# Altium schematic symbol library Miscellaneous.SchLib: 65 symbols
Pins are listed as number, name and electrical type; pins without a type are passive.

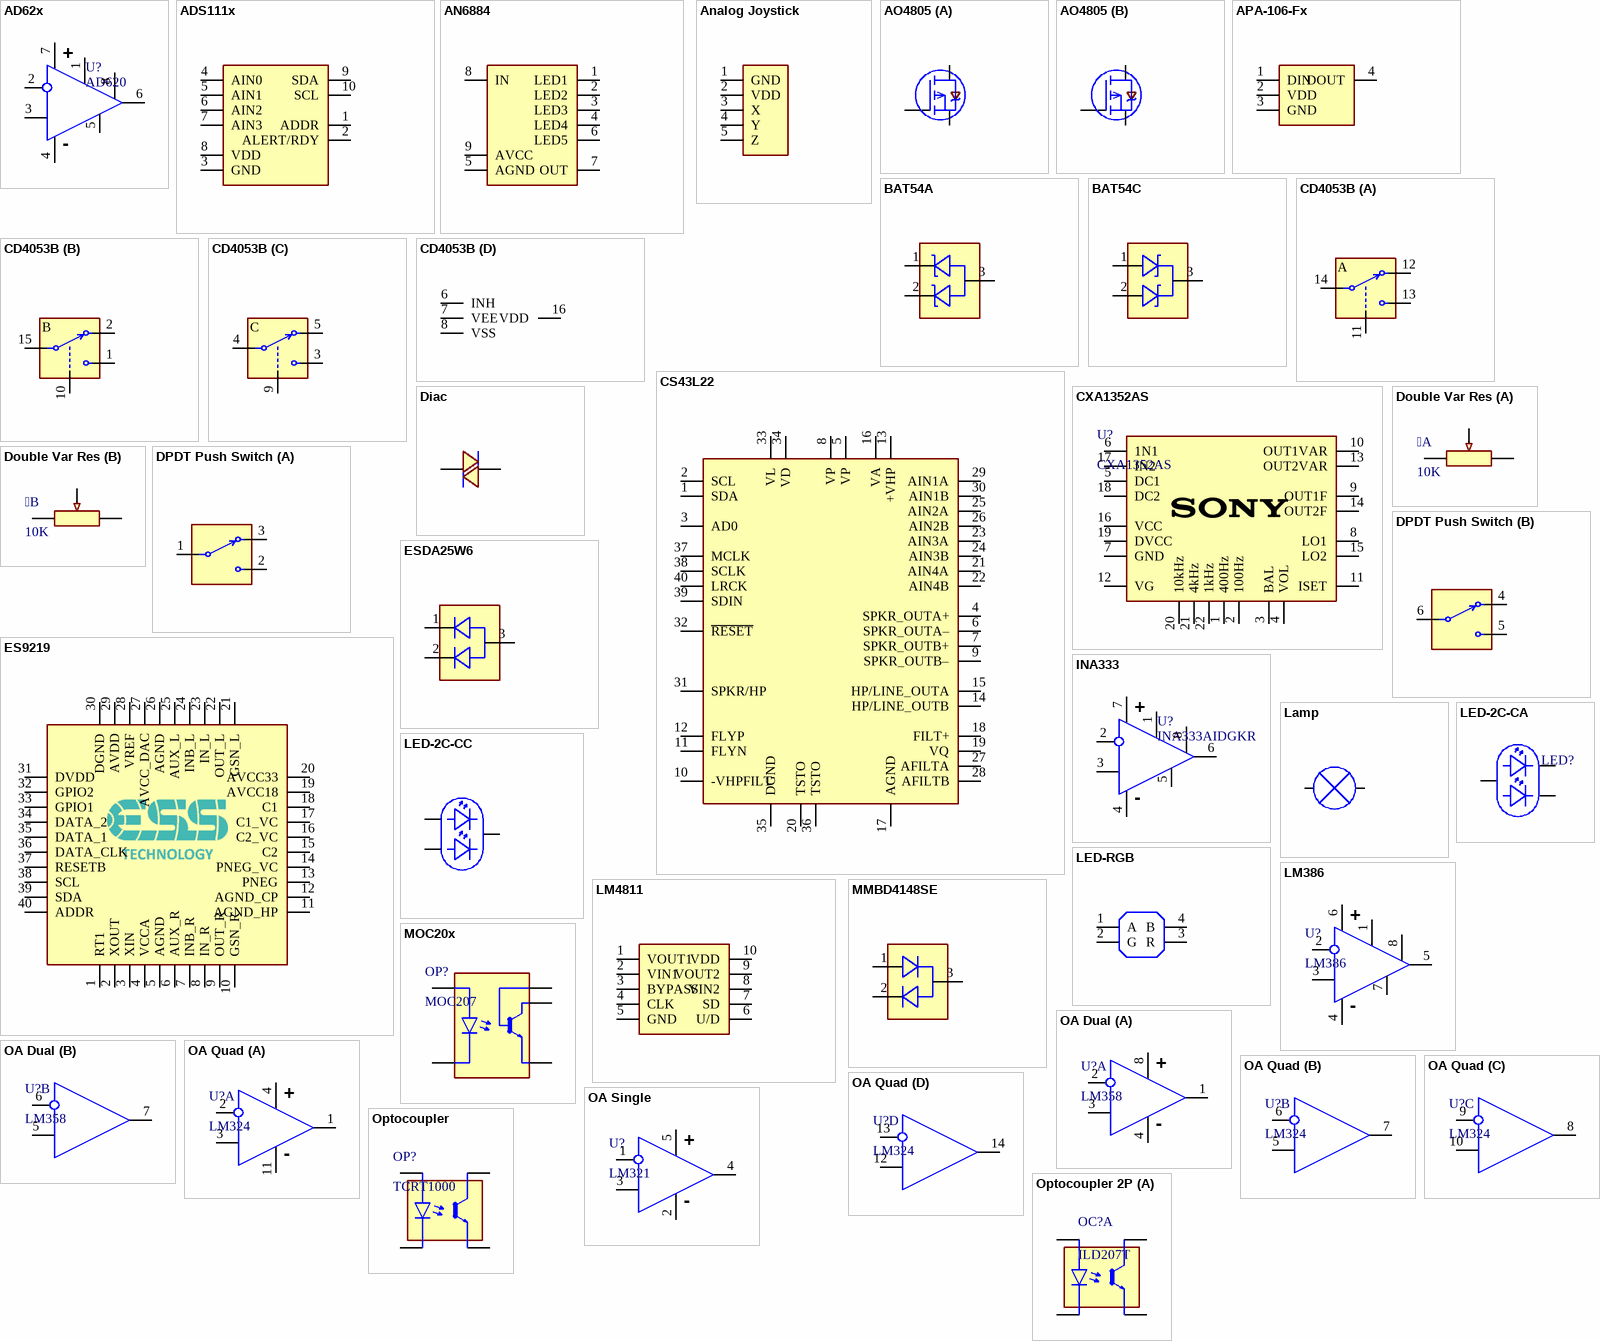
[diagram p0: symbols AD62x to Optocoupler 2P]

## AD62x
designator U?, comment AD620
Low Cost Low Power Instrumentation Amplifier; Part Number: AD620
footprint DIP8
footprint SOIC8 (Small Outline Integrated Circuit)
pins: 1, 2, 3, 4, 5, 6, 7, 8
text: +; -

## ADS111x
designator U?, comment ADS1115IDGSR
Ultra-Small, Low-Power, I / 2C-Compatible, 860-SPS, 16-Bit ADCs / With Internal Reference, Oscillator, and Programmable Comparator; Part Number: ADS1115IDGSR
footprint VSSOP10
pins: 1 ADDR, 2 ALERT/RDY, 3 GND, 4 AIN0, 5 AIN1, 6 AIN2, 7 AIN3, 8 VDD, 9 SDA, 10 SCL

## AN6884
designator U?
Driving 5-LED and is capable of logarithmic (dB) bar graph display for input signal; Part Number: AN6884
pins: 1 LED1, 2 LED2, 3 LED3, 4 LED4, 5 AGND, 6 LED5, 7 OUT, 8 IN, 9 AVCC

## Analog Joystick
designator U?, comment RKJXV1224005
PS5 Analog Joystick; Part Number: RKJXV1224005
footprint RKJXV1224005 (PS5 Analog Joystick)
footprint COM-09032 (PS3/PS4 Analog Joystick)
pins: 1 GND, 2 VDD, 3 X, 4 Y, 5 Z

## AO4805
designator Q?
Dual P-Channel MOSFET; Part Number: AO4805
footprint SOIC8 (Small Outline Integrated Circuit); pin to pad 5>5+6 7>7+8
part A pins: 3 S1, 4 G1, 5 D1
part B pins: 1 S2, 2 G2, 7 D2

## APA-106-Fx
designator LED?, comment APA-106-F5
RGB Address LED; Part Number: APA-106-F5
footprint _4-PAD-SM
footprint _4-PAD-TH
pins: 1 DIN, 2 VDD, 3 GND, 4 DOUT

## BAT54A
designator D?, comment MMBD4148SE
SCHOTTKY BARRIER DIODE CA; Part Number: MMBD4148SE
footprint SOT-23-3-312
pins: 1, 2, 3

## BAT54C
designator D?, comment MMBD4148SE
SCHOTTKY BARRIER DIODE CC; Part Number: MMBD4148SE
footprint SOT-23-3-312
pins: 1, 2, 3

## CD4053B
designator U?
CMOS Single 8-Channel Analog Multiplexer or Demultiplexer; Part Number: CD4053B
footprint SOIC16
footprint DIP16
footprint TSSOP16
part A pins: 11, 12, 13, 14
part B pins: 1, 2, 10, 15
part C pins: 3, 4, 5, 9
part D pins: 6 INH, 7 VEE, 8 VSS, 16 VDD
part A text: A
part B text: B
part C text: C

## CS43L22
designator U?
Low Power, Stereo DAC w/Headphone & Speaker Amps; Part Number: CS43L22
footprint QFN40
pins: 1 SDA, 2 SCL, 3 AD0, 4 SPKR_OUTA+, 5 VP, 6 SPKR_OUTA–, 7 SPKR_OUTB+, 8 VP, 9 SPKR_OUTB–, 10 -VHPFILT, 11 FLYN, 12 FLYP, 13 +VHP, 14 HP/LINE_OUTB, 15 HP/LINE_OUTA, 16 VA, 17 AGND, 18 FILT+, 19 VQ, 20 TSTO, 21 AIN4A, 22 AIN4B, 23 AIN3A, 24 AIN3B, 25 AIN2A, 26 AIN2B, 27 AFILTA, 28 AFILTB, 29 AIN1A, 30 AIN1B, 31 SPKR/HP, 32 ~{RESET}, 33 VL, 34 VD, 35 DGND, 36 TSTO, 37 MCLK, 38 SCLK, 39 SDIN, 40 LRCK

## CXA1352AS
designator U?
2-channel 5 Elements Graphic Equalizer IC; Part Number: CXA1352AS
footprint SDIP22
pins: 1 400Hz, 2 100Hz, 3 BAL, 4 VOL, 5 DC1, 6 1N1, 7 GND, 8 LO1, 9 OUT1F, 10 OUT1VAR, 11 ISET, 12 VG, 13 OUT2VAR, 14 OUT2F, 15 LO2, 16 VCC, 17 IN2, 18 DC2, 19 DVCC, 20 10kHz, 21 4kHz, 22 1kHz

## Diac
designator D?, comment DB-3
Part Number: DB-3
footprint _2-PAD-SM
footprint _2-PAD-TH
footprint AXIAL10D-BL
footprint AXIAL10D-TR
footprint AXIAL12D-BL
footprint MELF-LL34
footprint SOD-123FL
footprint SOD-128
footprint SOD-323
footprint SOD-523 (SSMini2, SC-79)
pins: 1, 2

## Double Var Res
designator , comment 10K
Part Number: RK1411G; Value: 10K
footprint RK1411G
part A pins: 1, 2, 6
part B pins: 3, 4, 5

## DPDT Push Switch
designator SW?, comment MHPS2273  (value not drawn)
Part Number: MHPS2273
footprint MHPS2273 (MHPS Series Key Switches)
part A pins: 1, 2, 3
part B pins: 4, 5, 6

## ES9219
designator U?, comment ES9219Q
32-bit Stereo Low Power DAC with Headphone Amplifier, Analog Volume Control and Output Switch; Part Number: ES9219Q
footprint QFN40-5X5MM-P0.4MM
pins: 1 RT1, 2 XOUT, 3 XIN, 4 VCCA, 5 AGND, 6 AUX_R, 7 INB_R, 8 IN_R, 9 OUT_R, 10 GSN_R, 11 AGND_HP, 12 AGND_CP, 13 PNEG, 14 PNEG_VC, 15 C2, 16 C2_VC, 17 C1_VC, 18 C1, 19 AVCC18, 20 AVCC33, 21 GSN_L, 22 OUT_L, 23 IN_L, 24 INB_L, 25 AUX_L, 26 AGND, 27 AVCC_DAC, 28 VREF, 29 AVDD, 30 DGND, 31 DVDD, 32 GPIO2, 33 GPIO1, 34 DATA_2, 35 DATA_1, 36 DATA_CLK, 37 RESETB, 38 SCL, 39 SDA, 40 ADDR

## ESDA25W6
designator D?
TRANSIL™ array for data protection; Part Number: ESDA25W6
footprint SOT-323 (SC-70)
pins: 1, 2, 3

## INA333
designator U?, comment INA333AIDGKR
Micro-Power (50μA), Zerø-Drift, Rail-to-Rail Out Instrumentation Amplifier; Part Number: INA333AIDGKR
footprint VSSOP8
pins: 1, 2, 3, 4, 5, 6, 7, 8
text: +; -

## Lamp
designator DS?
footprint _2-PAD-SM
footprint _2-PAD-TH
pins: 1, 2

## LED-2C-CA
designator LED?
footprint LED-3010
pins: 1, 2, 3

## LED-2C-CC
designator LED?
footprint LED-3010
pins: 1, 2, 3

## LED-RGB
designator LED?, comment 3528
Part Number: 3528
footprint _4-PAD-SM
footprint _4-PAD-TH
footprint LED-1010
footprint LED-3528
pins: 1 A, 2 G, 3 R, 4 B

## LM386
designator U?
LM386 Low Voltage Audio Power Amplifier; Part Number: LM386
footprint SOIC8 (Small Outline Integrated Circuit)
footprint DIP8
pins: 1, 2, 3, 4, 5, 6, 7, 8
text: +; -

## LM4811
designator U?
Dual 105mW Headphone Amplifier with Digital Volume Control and Shutdown mode; Part Number: LM4811
footprint HVSSOP10
pins: 1 VOUT1, 2 VIN1, 3 BYPASS, 4 CLK, 5 GND, 6 U/D, 7 SD, 8 VIN2, 9 VOUT2, 10 VDD

## MMBD4148SE
designator D?
Part Number: MMBD4148SE
footprint SOT-23-312
pins: 1, 2, 3

## MOC20x
designator OP?, comment MOC207
SMALL OUTLINE OPTOISOLATORS TRANSISTOR OUTPUT; Part Number: MOC207
footprint SOIC8-H3.6MM
pins: 1 Anode, 2 Cathode, 5 Emitter, 6 Collector, 7 Base

## OA Dual
designator U?, comment LM358
Part Number: LM358
footprint SOIC8
footprint DIP8
footprint VSSOP8
footprint TSOT-23-8
part A pins: 1 OUT, 2 −, 3 +, 4 Vs-, 8 Vs+
part B pins: 5 +, 6 −, 7 OUT
part A text: -

## OA Quad
designator U?, comment LM324
Part Number: LM324
footprint SOIC14
footprint DIP14
footprint TSSOP14
part A pins: 1 OUT, 2 −, 3 +, 4 Vs+, 11 Vs-
part B pins: 5 +, 6 −, 7 OUT
part C pins: 8 OUT, 9 −, 10 +
part D pins: 12 +, 13 −, 14 OUT
part A text: -

## OA Single
designator U?, comment LM321
Part Number: LM321
footprint SOT-23-5
pins: 1 −, 2 Vs-, 3 +, 4 OUT, 5 Vs+
text: -

## Optocoupler
designator OP?, comment TCRT1000
Part Number: TCRT1000
footprint _4-PAD-SM
footprint _4-PAD-TH
footprint DIP4
footprint DIP4-WHITE
pins: 1 Anode, 2 Cathode, 3 Emitter, 4 Collector

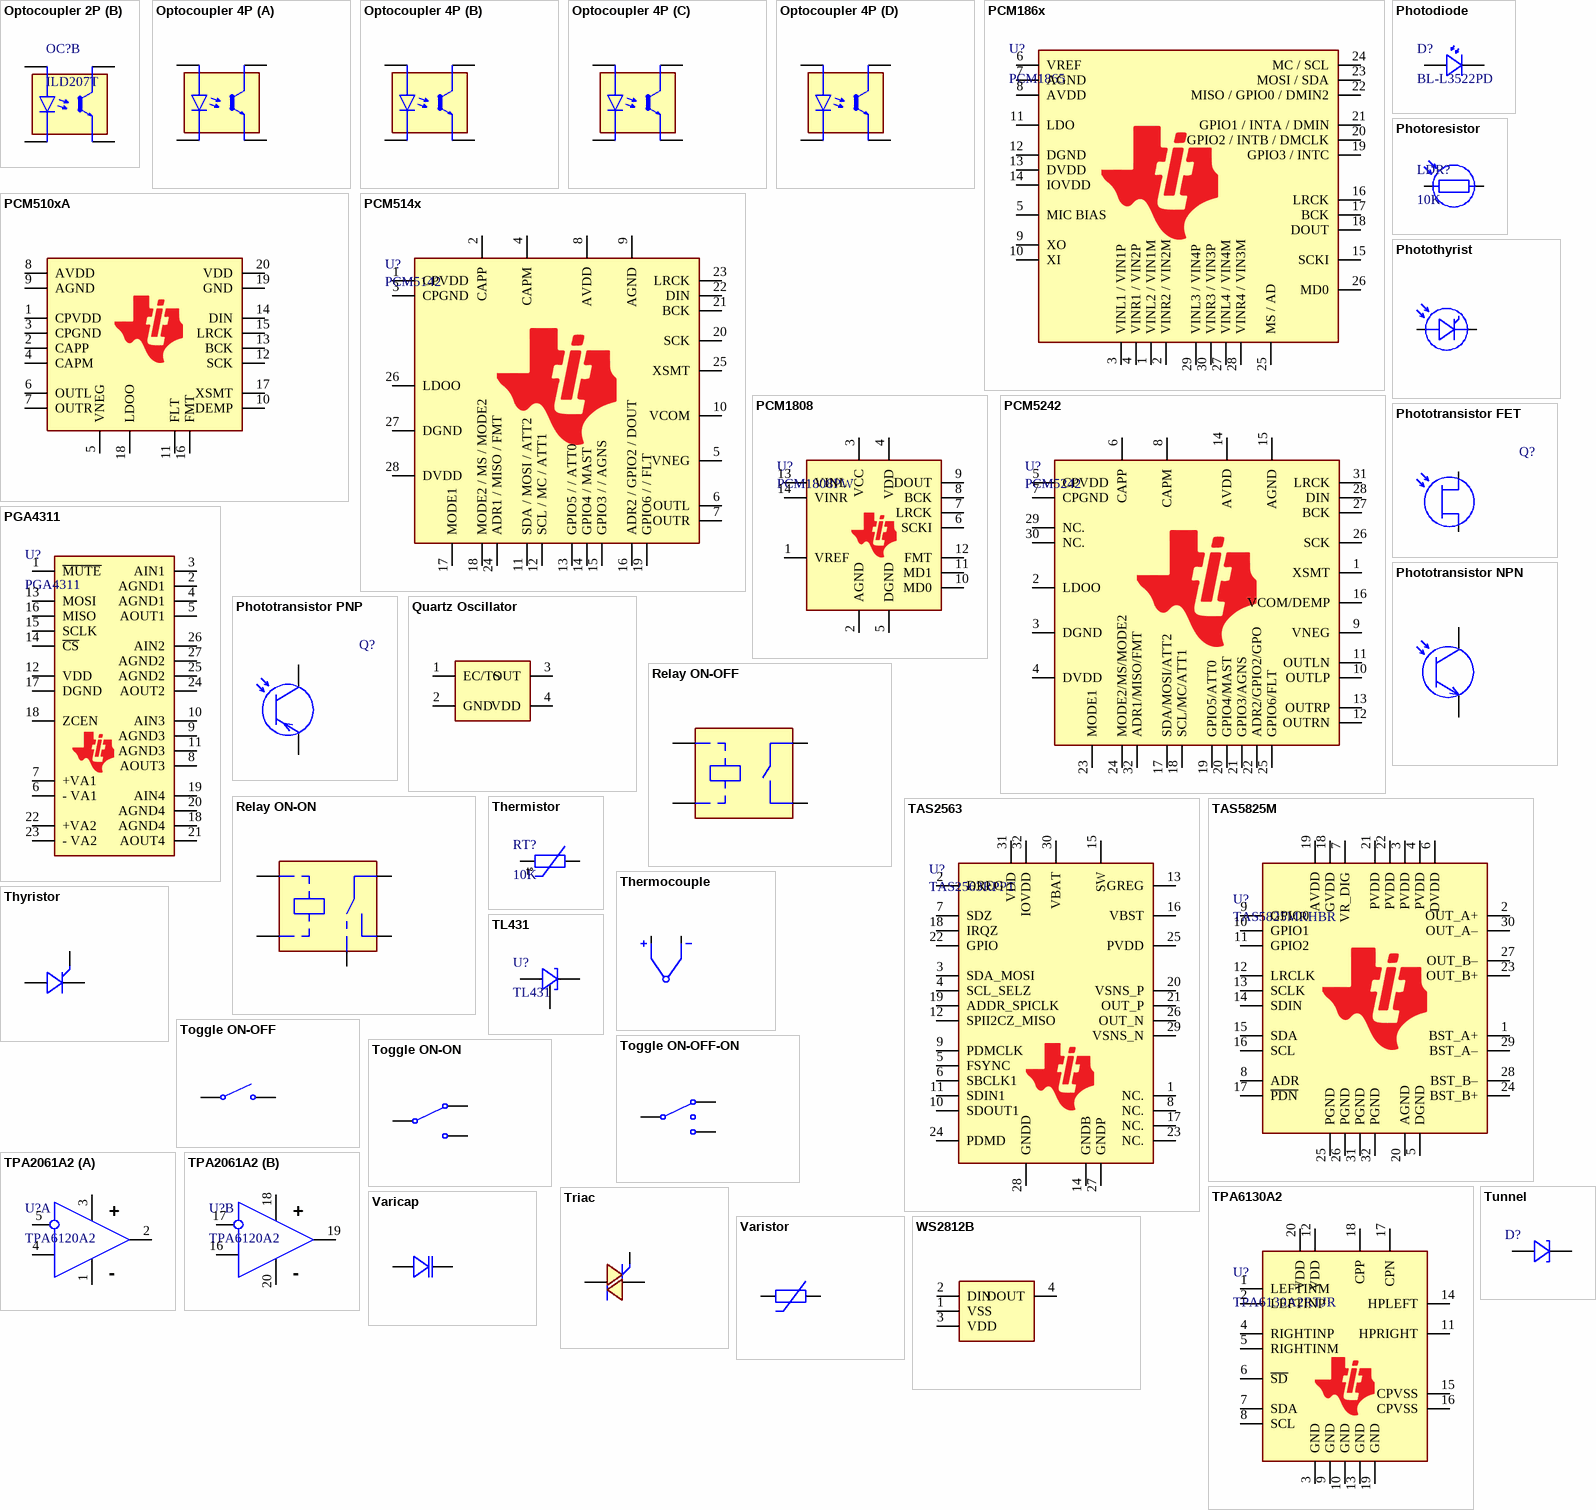
[diagram p1: symbols Optocoupler 2P to WS2812B]

## Optocoupler 2P
designator OC?, comment ILD207T
Part Number: ILD207T
footprint SOIC8
footprint DIP8
footprint DIP8-WHITE
part A pins: 1, 2, 7, 8
part B pins: 3, 4, 5, 6

## Optocoupler 4P
designator OC?, comment PS2801-4
Part Number: PS2801-4
footprint SSOP16
footprint SOP16
footprint DIP16
footprint DIP16-WHITE
footprint SOIC16
part A pins: 1, 2, 15, 16
part B pins: 3, 4, 13, 14
part C pins: 5, 6, 11, 12
part D pins: 7, 8, 9, 10

## PCM186x
designator U?, comment PCM1865
4-Channel or 2-Channel, 192-kHz, Audio ADCs (PCM1862 - PCM1865); Part Number: PCM1865
pins: 1 VINL2 / VIN1M, 2 VINR2 / VIN2M, 3 VINL1 / VIN1P, 4 VINR1 / VIN2P, 5 MIC BIAS, 6 VREF, 7 AGND, 8 AVDD, 9 XO, 10 XI, 11 LDO, 12 DGND, 13 DVDD, 14 IOVDD, 15 SCKI, 16 LRCK, 17 BCK, 18 DOUT, 19 GPIO3 / INTC, 20 GPIO2 / INTB / DMCLK, 21 GPIO1 / INTA / DMIN, 22 MISO / GPIO0 / DMIN2, 23 MOSI / SDA, 24 MC / SCL, 25 MS / AD, 26 MD0, 27 VINL4 / VIN4M, 28 VINR4 / VIN3M, 29 VINL3 / VIN4P, 30 VINR3 / VIN3P

## PCM510xA
designator U?, comment PCM5102A
2.1 VRMS, 112/106/100 dB Audio Stereo DAC with PLL and 32-bit, 384 kHz PCM Interface; Part Number: PCM5102A
footprint TSSOP20
pins: 1 CPVDD, 2 CAPP, 3 CPGND, 4 CAPM, 5 VNEG, 6 OUTL, 7 OUTR, 8 AVDD, 9 AGND, 10 DEMP, 11 FLT, 12 SCK, 13 BCK, 14 DIN, 15 LRCK, 16 FMT, 17 XSMT, 18 LDOO, 19 GND, 20 VDD

## PCM514x
designator U?, comment PCM5142
2-VRMS DirectPath™, 112/106-dB Audio Stereo DAC With 32-bit, 384-kHz PCM Interface; Part Number: PCM5142
footprint TSSOP28 (TSOP, 28-Leads, Body 9,70x4,40mm, Pitch 0,65mm, IPC Medium Density)
pins: 1 CPVDD, 2 CAPP, 3 CPGND, 4 CAPM, 5 VNEG, 6 OUTL, 7 OUTR, 8 AVDD, 9 AGND, 10 VCOM, 11 SDA / MOSI / ATT2, 12 SCL / MC / ATT1, 13 GPIO5 / / ATT0, 14 GPIO4 / MAST, 15 GPIO3 / / AGNS, 16 ADR2 / GPIO2 / DOUT, 17 MODE1, 18 MODE2 / MS / MODE2, 19 GPIO6 / / FLT, 20 SCK, 21 BCK, 22 DIN, 23 LRCK, 24 ADR1 / MISO / FMT, 25 XSMT, 26 LDOO, 27 DGND, 28 DVDD

## PCM1808
designator U?, comment PCM1808PW
SINGLE-ENDED, ANALOG-INPUT 24-BIT, 96-kHz STEREO A/D CONVERTER; Part Number: PCM1808PW
footprint TSSOP14
pins: 1 VREF, 2 AGND, 3 VCC, 4 VDD, 5 DGND, 6 SCKI, 7 LRCK, 8 BCK, 9 DOUT, 10 MD0, 11 MD1, 12 FMT, 13 VINL, 14 VINR

## PCM5242
designator U?
4.2-VRMS DirectPath™, 114-dB Audio Stereo Differential-Output DAC with 32-bit, 384-kHz PCM Interface; Part Number: PCM5242
footprint UFQFPN32
pins: 1 XSMT, 2 LDOO, 3 DGND, 4 DVDD, 5 CPVDD, 6 CAPP, 7 CPGND, 8 CAPM, 9 VNEG, 10 OUTLP, 11 OUTLN, 12 OUTRN, 13 OUTRP, 14 AVDD, 15 AGND, 16 VCOM/DEMP, 17 SDA/MOSI/ATT2, 18 SCL/MC/ATT1, 19 GPIO5/ATT0, 20 GPIO4/MAST, 21 GPIO3/AGNS, 22 ADR2/GPIO2/GPO, 23 MODE1, 24 MODE2/MS/MODE2, 25 GPIO6/FLT, 26 SCK, 27 BCK, 28 DIN, 29 NC., 30 NC., 31 LRCK, 32 ADR1/MISO/FMT

## PGA4311
designator U?
4-Channel Audio Volume Control; Part Number: PGA4311
footprint SOIC28
pins: 1 ~{MUTE}, 2 AGND1, 3 AIN1, 4 AGND1, 5 AOUT1, 6 - VA1, 7 +VA1, 8 AOUT3, 9 AGND3, 10 AIN3, 11 AGND3, 12 VDD, 13 MOSI, 14 ~{CS}, 15 SCLK, 16 MISO, 17 DGND, 18 ZCEN, 18 AGND4, 19 AIN4, 20 AGND4, 21 AOUT4, 22 +VA2, 23 - VA2, 24 AOUT2, 25 AGND2, 26 AIN2, 27 AGND2

## Photodiode
designator D?, comment BL-L3522PD
Part Number: BL-L3522PD
footprint _2-PAD-SM
footprint _2-PAD-TH
footprint AXIAL10D-BL
footprint AXIAL10D-TR
footprint AXIAL12D-BL
footprint SMA (DO-214AC)
footprint SMB (DO-214AA)
footprint SMC (DO-214AB)
footprint SOD-123FL
footprint SOD-128
footprint SOD-323
footprint SOD-523 (SSMini2, SC-79)
pins: 1, 2

## Photoresistor
designator LDR?, comment 10K
Part Number: PGM5506; Value: 10K
footprint _2-PAD-TH
footprint _2-PAD-SM
pins: 1, 2

## Photothyrist
designator D?
footprint _2-PAD-SM
footprint _2-PAD-TH
pins: 1 A, 2 K

## Phototransistor FET
designator Q?
footprint _2-PAD-SM
footprint _2-PAD-TH
pins: 1 D, 2 S

## Phototransistor NPN
designator Q?
footprint _2-PAD-SM
footprint _2-PAD-TH
pins: 1 C, 2 E

## Phototransistor PNP
designator Q?
footprint _2-PAD-SM
footprint _2-PAD-TH
pins: 1 C, 2 E

## Quartz Oscillator
designator Y?, comment MCSJK-6NC2
Value: 48 MHz; Part Number: MCSJK-6NC2
footprint _4-PAD-SM
footprint _4-PAD-TH
footprint QUARTZ-7X5MM
footprint SMD3225
pins: 1 EC/TS, 2 GND, 3 OUT, 4 VDD

## Relay ON-OFF
designator K?, comment SRD-12VDC-SLA
Part Number: SRD-12VDC-SLA
footprint _4-PAD-SM
footprint _4-PAD-TH
footprint SRD-XXVDC-SLA
footprint SRD-XXVDC-SLB
pins: 1, 2, 3, 4

## Relay ON-ON
designator K?, comment NRP05-A-12D
Part Number: NRP05-A-12D
footprint _5-PAD-SM
footprint _5-PAD-TH
footprint NRP05-C
footprint SRD-XXVDC-SLC
pins: 1, 2, 3, 4, 5

## TAS2563
designator U?, comment TAS2563RPPT
6.1W Boosted Class-D Audio Amplifier With Integrated DSP and IV Sense; Part Number: TAS2563RPPT
footprint RPP0032B
pins: 1 NC., 2 DREG, 3 SDA_MOSI, 4 SCL_SELZ, 5 FSYNC, 6 SBCLK1, 7 SDZ, 8 NC., 9 PDMCLK, 10 SDOUT1, 11 SDIN1, 12 SPII2CZ_MISO, 13 GREG, 14 GNDB, 15 SW, 16 VBST, 17 NC., 18 IRQZ, 19 ADDR_SPICLK, 20 VSNS_P, 21 OUT_P, 22 GPIO, 23 NC., 24 PDMD, 25 PVDD, 26 OUT_N, 27 GNDP, 28 GNDD, 29 VSNS_N, 30 VBAT, 31 VDD, 32 IOVDD

## TAS5825M
designator U?, comment TAS5825MRHBR
4.5 V to 26.4 V, 38-W Stereo, Inductor-Less, Digital Input, Closed-Loop / Class-D Audio Amplifier with 192-kHz Extended Audio Processing; Part Number: TAS5825MRHBR
footprint UFQFPN32
pins: 1 BST_A+, 2 OUT_A+, 3 PVDD, 4 PVDD, 5 DGND, 6 DVDD, 7 VR_DIG, 8 ADR, 9 GPIO0, 10 GPIO1, 11 GPIO2, 12 LRCLK, 13 SCLK, 14 SDIN, 15 SDA, 16 SCL, 17 ~{PDN}, 18 GVDD, 19 AVDD, 20 AGND, 21 PVDD, 22 PVDD, 23 OUT_B+, 24 BST_B+, 25 PGND, 26 PGND, 27 OUT_B–, 28 BST_B–, 29 BST_A–, 30 OUT_A–, 31 PGND, 32 PGND

## Thermistor
designator RT?, comment 10K
Part Number: NCP18XH103F03RB; Value: 10K
footprint _2-PAD-SM
footprint _2-PAD-TH
footprint R0201
footprint R0402
footprint R0603
footprint R0805
footprint R1206
pins: 1, 2
text: t°

## Thermocouple
designator TC?
footprint _2-PAD-SM
footprint _2-PAD-TH
pins: 1, 2

## Thyristor
designator D?, comment BT151
Part Number: BT151
footprint D2PAK-123
footprint D2PAK-132
footprint DPAK-123 (TO-252)
footprint DPAK-132 (TO-252)
footprint SOT-223
footprint SOT-23-3-123
footprint SOT-23-3-312
footprint SOT-323 (SC-70)
footprint SOT-416FL (SC-89 (EMT3))
footprint TO-220-H
footprint TO-220-V
footprint TO-92-123-L
footprint TO-92-123-T
footprint TO-92-132-L
footprint TO-92-132-T
footprint TO-92-321-L
footprint TO-92-321-T
pins: 1 A, 2 K, 3 Gate

## TL431
designator U?
Adjustable precision shunt regulator; Part Number: TL431
footprint TO-92-123-L
footprint SOT-23-312
pins: 1 REF, 1, 3

## Toggle ON-OFF
designator SW?, comment KN3(C)-101P
Part Number: KN3(C)-101P
footprint DIP_SW1
footprint MTS-1XX-A2 (Miniature Toggle Switch)
pins: 1, 3

## Toggle ON-OFF-ON
designator SW?, comment T8014-U2
Part Number: T8014-U2
footprint MTS-1XX-A2 (Miniature Toggle Switch)
footprint A1XAP (NKK Switches A-Series Toggle Switch)
footprint B1XAP (NKK Switches B-Series Toggle Switch)
footprint T801X (Toggle Switch)
pins: 1, 2, 3

## Toggle ON-ON
designator SW?, comment T8013-U2
Part Number: T8013-U2
footprint MTS-1XX-A2 (Miniature Toggle Switch)
footprint A1XAP (NKK Switches A-Series Toggle Switch)
footprint B1XAP (NKK Switches B-Series Toggle Switch)
footprint T801X (Toggle Switch)
footprint SS12F21G
pins: 1, 2, 3

## TPA2061A2
designator U?, comment TPA6120A2
2-Channel Audio Volume Control; Part Number: TPA6120A2
footprint HSOP20
part A pins: 1 -, 2, 3 +, 4 +, 5 -
part B pins: 16 +, 17 -, 18 RVCC+, 19 ROUT, 20 RVCC-

## TPA6130A2
designator U?, comment TPA6130A2RTJR
138-mW DIRECTPATH™ Stereo Headphone Amplifier with I2C Volume Control; Part Number: TPA6130A2RTJR
footprint QFN20 (QFN, 20-Leads, Body 4,00x4,00mm, Pitch 0,50mm, Thermal Pad 2,70x2,70mm, IPC Medium Density)
pins: 1 LEFTINM, 2 LEFTINP, 3 GND, 4 RIGHTINP, 5 RIGHTINM, 6 ~{SD}, 7 SDA, 8 SCL, 9 GND, 10 GND, 11 HPRIGHT, 12 VDD, 13 GND, 14 HPLEFT, 15 CPVSS, 16 CPVSS, 17 CPN, 18 CPP, 19 GND, 20 VDD

## Triac
designator D?, comment BT136
Part Number: BT136
footprint _3-PAD-SM
footprint _3-PAD-TH
footprint D2PAK-123
footprint D2PAK-132
footprint DPAK-123 (TO-252)
footprint DPAK-132 (TO-252)
footprint SOT-223
footprint SOT-23-3-123
footprint SOT-23-3-312
footprint SOT-323 (SC-70)
footprint SOT-416FL (SC-89 (EMT3))
footprint TO-220-H
footprint TO-220-V
footprint TO-92-123-L
footprint TO-92-123-T
footprint TO-92-132-L
footprint TO-92-132-T
footprint TO-92-321-L
footprint TO-92-321-T
pins: 1, 2, 3

## Tunnel
designator D?
footprint _2-PAD-SM
footprint _2-PAD-TH
footprint AXIAL10D-BL
footprint AXIAL10D-TR
footprint AXIAL12D-BL
footprint MELF-LL34
footprint SMA (DO-214AC)
footprint SMB (DO-214AA)
footprint SMC (DO-214AB)
footprint SOD-123FL
footprint SOD-128
footprint SOD-323
footprint SOD-523 (SSMini2, SC-79)
pins: 1, 2

## Varicap
designator D?, comment BB139
Part Number: BB139
footprint _2-PAD-SM
footprint _2-PAD-TH
footprint AXIAL10D-BL
footprint AXIAL10D-TR
footprint AXIAL12D-BL
footprint MELF-LL34
footprint SOD-123FL
footprint SOD-128
footprint SOD-323
footprint SOD-523 (SSMini2, SC-79)
pins: 1, 2

## Varistor
designator RV?
footprint _2-PAD-TH
footprint _2-PAD-SM
pins: 1, 2

## WS2812B
designator LED?
Part Number: WS2812B
footprint WS2812B
pins: 1 VSS, 2 DIN, 3 VDD, 4 DOUT

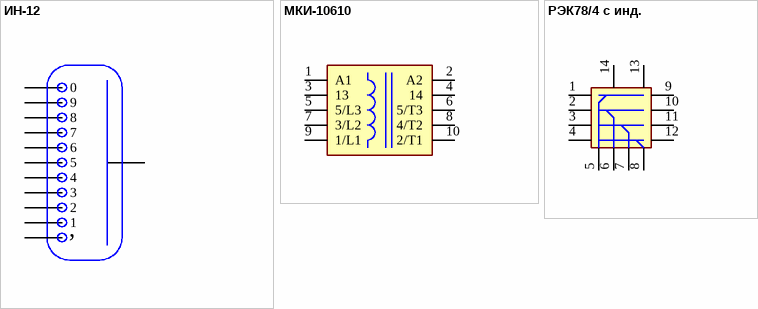
[diagram p2: symbols ИН-12 to РЭК78/4 с инд.]

## ИН-12
designator EL?
Part Number: ИН-12
footprint ИН-12
pins: 1, 2 0, 3 9, 4 8, 5 7, 6, 7 5, 8 4, 9 3, 10 2, 11 1, 12 COMMA
text: ,

## МКИ-10610
designator MS?
Part Number: МКИ-10610
pins: 1 A1, 2 A2, 3 13, 4 14, 5 5/L3, 6 5/T3, 7 3/L2, 8 4/T2, 9 1/L1, 10 2/T1

## РЭК78/4 с инд.
designator RE?
Part Number: РЭК78/4 с инд.
pins: 1, 2, 3, 4, 5, 6, 7, 8, 9, 10, 11, 12, 13, 14